# Altium integrated library UJ31-CH-31-SMT-TR.IntLib: 1 symbol
Pins are listed as number, name and electrical type; pins without a type are passive.

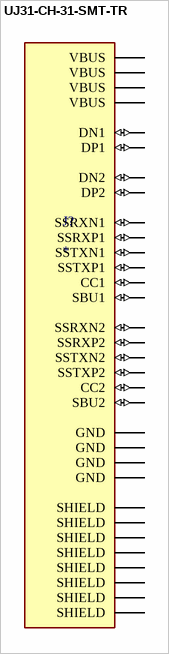
[diagram p0: symbol UJ31-CH-31-SMT-TR]

## UJ31-CH-31-SMT-TR
designator J?
Type C, USB 3.1 Gen 2, 5 A, Right Angle, Surface Mount (SMT), USB Receptacle; MP: UJ31-CH-31-SMT-TR; MF: CUI Devices; Check_prices: https://www.snapeda.com/parts/UJ31-CH-31-SMT-TR/CUI+Devices/view-part/?ref=eda; Price: None; SnapEDA_Link: https://www.snapeda.com/parts/UJ31-CH-31-SMT-TR/CUI+Devices/view-part/?ref=snap; Availability: In Stock; Value: *; CUI_purchase_URL: https://www.cuidevices.com/product/interconnect/connectors/usb-connectors/uj31-ch-smt-series?utm_source=snapeda.com&utm_medium=referral&utm_campaign=snapedaBOM; Purchase-URL: https://pricing.snapeda.com/search/part/UJ31-CH-31-SMT-TR/?ref=eda; Package: None
footprint CUI_UJ31-CH-31-SMT-TR
pins: 1 SHIELD, 2 SHIELD, 3 SHIELD, 4 SHIELD, 5 SHIELD, 6 SHIELD, A1 GND (power), A2 SSTXP1 (io), A3 SSTXN1 (io), A4 VBUS (power), A5 CC1 (io), A6 DP1 (io), A7 DN1 (io), A8 SBU1 (io), A9 VBUS (power), A10 SSRXN2 (io), A11 SSRXP2 (io), A12 GND (power), B1 GND (power), B2 SSTXP2 (io), B3 SSTXN2 (io), B4 VBUS (power), B5 CC2 (io), B6 DP2 (io), B7 DN2 (io), B8 SBU2 (io), B9 VBUS (power), B10 SSRXN1 (io), B11 SSRXP1 (io), B12 GND (power), S1 SHIELD, S2 SHIELD